# EAGLE library part AT86RF212 (library X893)
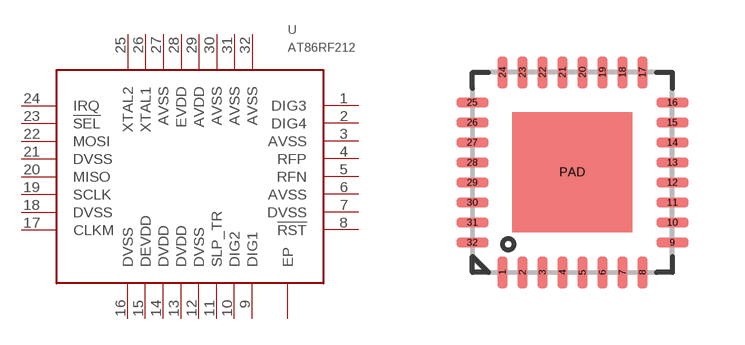
[diagram p75: symbol with the pads of QFN32-5X5; footprint QFN32-5X5]

Designator prefix U

## AT86RF212  [QFN32-5X5]
1  DIG3  out
2  DIG4  out
3  AVSS  pwr
4  RFP  pas
5  RFN  pas
6  AVSS  pwr
7  DVSS  pas
8  !RST  in
9  DIG1  out
10  DIG2  out
11  SLP_TR  in
12  DVSS  pwr
13  DVDD  pas
14  DVDD  pas
15  DEVDD  pas
16  DVSS  pwr
17  CLKM  out
18  DVSS  pwr
19  SCLK  in
20  MISO  out
21  DVSS  pwr
22  MOSI  in
23  !SEL  in
24  IRQ  out
25  XTAL2  pas
26  XTAL1  pas
27  AVSS  pwr
28  EVDD  pas
29  AVDD  pas
30  AVSS  pwr
31  AVSS  pwr
32  AVSS  pwr
PAD  EP  pwr

## Footprint QFN32-5X5 (pad centres in mm)
smd 0.25 x 0.8: 1 -1.75,-2.5; 2 -1.25,-2.5; 3 -0.75,-2.5; 4 -0.25,-2.5; 5 0.25,-2.5; 6 0.75,-2.5; 7 1.25,-2.5; 8 1.75,-2.5; 17 1.75,2.5; 18 1.25,2.5; 19 0.75,2.5; 20 0.25,2.5; 21 -0.25,2.5; 22 -0.75,2.5; 23 -1.25,2.5; 24 -1.75,2.5
smd 0.8 x 0.25: 9 2.5,-1.75; 10 2.5,-1.25; 11 2.5,-0.75; 12 2.5,-0.25; 13 2.5,0.25; 14 2.5,0.75; 15 2.5,1.25; 16 2.5,1.75; 25 -2.5,1.75; 26 -2.5,1.25; 27 -2.5,0.75; 28 -2.5,0.25; 29 -2.5,-0.25; 30 -2.5,-0.75; 31 -2.5,-1.25; 32 -2.5,-1.75
smd 0.5 x 0.5: PAD 0,0